# Altium footprint library aiskylab-06Crystals.PcbLib: 41 footprints (part 1 of 3)
Each footprint in its own frame and in the unit in brackets; x right, y up, seen from the top. Pads: shape width x height; smd on the part's side, far side on the other; paste and mask are expansions set on the pad; w line width, h text height; cw(c..) or ccw(c..) is an arc to the next point about the centre after c.
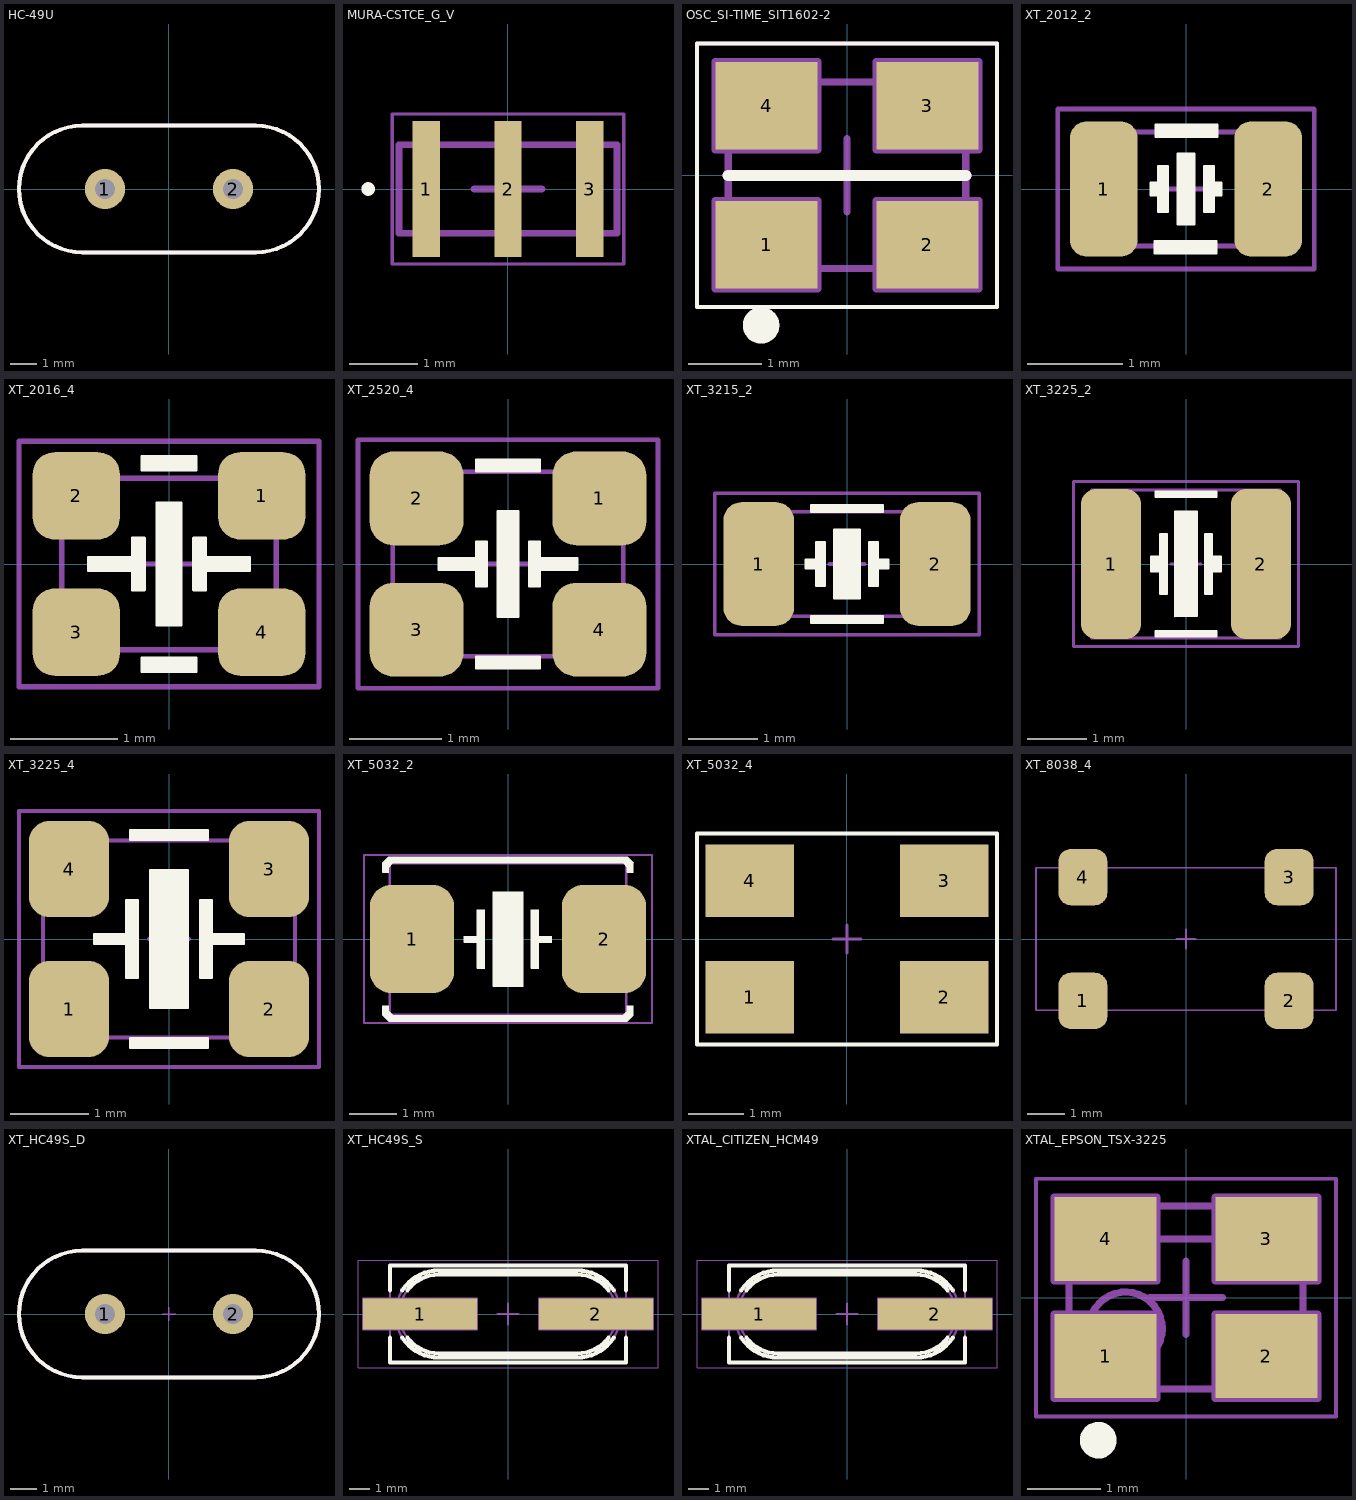
[diagram p0: the footprints below, top view; thin cyan lines are the x and y axes]

## HC-49U [mil]
pads (2):
  round 60 hole 30: 1(-96.06,0) 2(96.06,0)
Top Overlay:
  lines w5.91: -130,-95.02 cw(c-130,0) -130,95.02 130,95.02 cw(c130.06,0) 130,-95.02 -130,-95.02
Top Designator:
  text ".Designator" at -299.87,-19.99 h60
Top Assembly:
  lines w5.91: -130,-95.02 cw(c-130,0) -130,95.02 130,95.02 cw(c130.06,0) 130,-95.02 -130,-95.02
Top Component Outline:
  lines w5.91: -130,-95.02 cw(c-130,0) -130,95.02 130,95.02 cw(c130.06,0) 130,-95.02 -130,-95.02
3D body "hc-49-us.stp": height 144.88, standoff -98.43, extent -220.07,-92.51 220.09,92.52

## MURA-CSTCE_G_V [mm] "SMD, 3-Leads, Body 3.2x1.3mm, Pitch 1.2mm"
height 0.8
pads (3):
  rect 0.4x2 smd: 1(-1.2,0) 2(0,0) 3(1.2,0)
Top Overlay:
  circle w0.1: c-2.05,0 r0.05
Top Assembly:
  lines w0.05: -1.7,-1.1 1.7,-1.1 1.7,1.1 -1.7,1.1 -1.7,-1.1
Top Component Center:
  lines w0.1: -0.5,0 0.5,0 ; 0,-0.5 0,0.5
Top Component Outline:
  lines w0.05: -1.7,-1.1 1.7,-1.1 1.7,1.1 -1.7,1.1 -1.7,-1.1
Top 3D Body:
  lines w0.1: -1.6,-0.65 1.6,-0.65 1.6,0.65 -1.6,0.65 -1.6,-0.65
3D body "SW3dPS-CSTCE.STEP": height 0.7, standoff 0, extent -1.6,-0.65 1.6,0.65

## OSC_SI-TIME_SIT1602-2 [mm]
pads (4):
  rect 1.4x1.2 smd: 1(-1.1,-0.95) 2(1.1,-0.95) 3(1.1,0.95) 4(-1.1,0.95)
Top Overlay:
  circle w0.25: c-1.175,-2.05 r0.125
  lines w0.05: -2.05,-1.8 -2.05,1.8 2.05,1.8 2.05,-1.8 -2.05,-1.8
  lines w0.15: -1.625,0 1.625,0
Top Designator:
  text ".Designator" at -7.618,-0.745 h1.52
Top Assembly:
  circle w0.1: c-1.125,-0.775 r0.25
  lines w0.1: -1.625,-1.275 -1.625,1.275 1.625,1.275 1.625,-1.275 -1.625,-1.275
Top Component Center:
  lines w0.1: -1.6,-0.95 -1.1,-0.95 ; -1.6,0.95 -1.1,0.95 ; -1.1,-1.45 -1.1,-0.95 ; -1.1,-0.45 -1.1,-0.95 ; -1.1,0.45 -1.1,0.95 ; -1.1,1.45 -1.1,0.95 ; -0.6,-0.95 -1.1,-0.95 ; -0.6,0.95 -1.1,0.95 ; -0.5,0 0,0 ; 0,-0.5 0,0 ; 0,0.5 0,0 ; 0.5,0 0,0 ; 0.6,-0.95 1.1,-0.95 ; 0.6,0.95 1.1,0.95 ; 1.1,-1.45 1.1,-0.95 ; 1.1,-0.45 1.1,-0.95 ; 1.1,0.45 1.1,0.95 ; 1.1,1.45 1.1,0.95 ; 1.6,-0.95 1.1,-0.95 ; 1.6,0.95 1.1,0.95 ; -1.8,-1.55 -0.4,-1.55 -0.4,-0.35 -1.8,-0.35 -1.8,-1.55 ; -1.8,0.35 -0.4,0.35 -0.4,1.55 -1.8,1.55 -1.8,0.35 ; 0.4,-1.55 1.8,-1.55 1.8,-0.35 0.4,-0.35 0.4,-1.55 ; 0.4,0.35 1.8,0.35 1.8,1.55 0.4,1.55 0.4,0.35
Top Component Outline:
  lines w0.05: -2.05,-1.8 -2.05,1.8 2.05,1.8 2.05,-1.8 -2.05,-1.8
  lines w0.15: -1.625,0 1.625,0
3D body "OSC_SI-TIME_SiT1602-2.stp": height 0.8, standoff 0, extent -1.625,-1.275 1.625,1.275
3D body "p140-120.stp": height 0.02, standoff 0, extent -1.8,0.35 -0.4,1.55
3D body "p140-120.stp": height 0.02, standoff 0, extent 0.4,0.35 1.8,1.55
3D body "p140-120.stp": height 0.02, standoff 0, extent -1.8,-1.55 -0.4,-0.35
3D body "p140-120.stp": height 0.02, standoff 0, extent 0.4,-1.55 1.8,-0.35

## XT_2012_2 [mil]
height 25.59
pads (2):
  rrect50% 28x56 smd: 1(-34,0) 2(34,0)
Top Overlay:
  region: 12.5,-26.5 -13,-26.5 -13,-21.5 12.5,-21.5
  region: 11.5,-9.5 7.5,-9.5 7.5,9.5 11.5,9.5 11.5,2.5 14.5,2.5 14.5,-2.5 11.5,-2.5
  region: -3.5,14.5 3.5,14.5 3.5,-14.5 -3.5,-14.5
  region: -11.5,9.5 -7.5,9.5 -7.5,-9.5 -11.5,-9.5 -11.5,-2.5 -14.5,-2.5 -14.5,2.5 -11.5,2.5
  region: -12.5,26.5 13,26.5 13,21.5 -12.5,21.5
  lines w1: -14.5,-2.5 -14.5,2.5 -11.5,2.5 -11.5,9.5 -7.5,9.5 -7.5,-9.5 -11.5,-9.5 -11.5,-2.5 -14.5,-2.5 ; -13,-26.5 12.5,-26.5 12.5,-21.5 -13,-21.5 -13,-26.5 ; -12.5,21.5 13,21.5 13,26.5 -12.5,26.5 -12.5,21.5 ; -3.5,-14.5 3.5,-14.5 3.5,14.5 -3.5,14.5 -3.5,-14.5 ; 7.5,-9.5 7.5,9.5 11.5,9.5 11.5,2.5 14.5,2.5 14.5,-2.5 11.5,-2.5 11.5,-9.5 7.5,-9.5
Top Designator:
  lines w2: -53,-33 53,-33 53,33 -53,33 -53,-33
  text ".Designator" at -35,-20 h80
Top 3D Body:
  lines w2: -10.01,0.01 9.99,0.01 ; 0,-10 0,10 ; -39.37,-23.62 39.37,-23.62 39.37,23.62 -39.37,23.62 -39.37,-23.62
3D body "User Library-ABS06.STEP": height 23.62, standoff 0, extent -39.37,-24.01 39.37,24.02

## XT_2016_4 [mil]
height 29.53
pads (4):
  rrect50% 32x32 smd: 1(34,25) 2(-34,25) 3(-34,-25) 4(34,-25)
Top Overlay:
  region: -10,-34.5 10,-34.5 10,-39.5 -10,-39.5
  region: 9,9.5 13.5,9.5 13.5,2.5 29.5,2.5 29.5,-2.5 13.5,-2.5 13.5,-9.5 9,-9.5
  region: -4.5,22.5 4.5,22.5 4.5,-22.5 -4.5,-22.5
  region: -29.5,2.5 -13.5,2.5 -13.5,9.5 -9,9.5 -9,-9.5 -13.5,-9.5 -13.5,-2.5 -29.5,-2.5
  region: -10,39.5 10,39.5 10,34.5 -10,34.5
  lines w1: -29.5,-2.5 -29.5,2.5 -13.5,2.5 -13.5,9.5 -9,9.5 -9,-9.5 -13.5,-9.5 -13.5,-2.5 -29.5,-2.5 ; -10,-39.5 -10,-34.5 10,-34.5 10,-39.5 -10,-39.5 ; -10,34.5 10,34.5 10,39.5 -10,39.5 -10,34.5 ; -4.5,-22.5 -4.5,22.5 4.5,22.5 4.5,-22.5 -4.5,-22.5 ; 9,-9.5 13.5,-9.5 13.5,-2.5 29.5,-2.5 29.5,2.5 13.5,2.5 13.5,9.5 9,9.5 9,-9.5
Top Designator:
  lines w2: -55,-45 -55,45 55,45 55,-45 -55,-45
  text ".Designator" at -35,-20 h80
Top 3D Body:
  lines w2: -10,0.01 10,0.01 ; 0.01,-10 0.01,10 ; -39.37,-31.5 39.37,-31.5 39.37,31.5 -39.37,31.5 -39.37,-31.5
3D body "User Library-NT2016SA-END4910A-48MHZ Crystal (NDK).STEP": height 27.56, standoff -0.04, extent -39.37,-31.5 39.37,31.5

## XT_2520_4 [mil]
height 29.53
pads (4):
  rrect50% 40x40 smd: 1(39,28) 2(-39,28) 3(-39,-28) 4(39,-28)
Top Overlay:
  region: -13.5,44.5 13.5,44.5 13.5,39.5 -13.5,39.5
  region: -13.5,-39.5 13.5,-39.5 13.5,-44.5 -13.5,-44.5
  region: -29.5,2.5 -13.5,2.5 -13.5,9.5 -9,9.5 -9,-9.5 -13.5,-9.5 -13.5,-2.5 -29.5,-2.5
  region: -4.5,22.5 4.5,22.5 4.5,-22.5 -4.5,-22.5
  region: 9,9.5 13.5,9.5 13.5,2.5 29.5,2.5 29.5,-2.5 13.5,-2.5 13.5,-9.5 9,-9.5
  lines w1: -29.5,-2.5 -13.5,-2.5 -13.5,-9.5 -9,-9.5 -9,9.5 -13.5,9.5 -13.5,2.5 -29.5,2.5 -29.5,-2.5 ; -13.5,-44.5 13.5,-44.5 13.5,-39.5 -13.5,-39.5 -13.5,-44.5 ; -13.5,39.5 -13.5,44.5 13.5,44.5 13.5,39.5 -13.5,39.5 ; -4.5,-22.5 4.5,-22.5 4.5,22.5 -4.5,22.5 -4.5,-22.5 ; 9,-9.5 9,9.5 13.5,9.5 13.5,2.5 29.5,2.5 29.5,-2.5 13.5,-2.5 13.5,-9.5 9,-9.5
Top Designator:
  lines w2: -64,-53 64,-53 64,53 -64,53 -64,-53
  text ".Designator" at -35,-20 h80
Top 3D Body:
  lines w2: -10,0.01 10,0.01 ; 0.01,-10 0.01,10 ; -49.21,-39.36 -49.21,39.37 49.22,39.37 49.22,-39.36 -49.21,-39.36
3D body "User Library-Osc KC2520.STEP": height 31.1, standoff 0, extent -49.21,-39.36 49.22,39.38

## XT_3215_2 [mil]
height 25.59
pads (2):
  rrect50% 40x70 smd: 1(-50,0) 2(50,0)
Top Overlay:
  region: 20.5,-33.5 -20.5,-33.5 -20.5,-29.5 20.5,-29.5
  region: 12.5,12.5 17.5,12.5 17.5,2.5 23.5,2.5 23.5,-2.5 17.5,-2.5 17.5,-12.5 12.5,-12.5
  region: -12.5,-12.5 -17.5,-12.5 -17.5,-2.5 -23.5,-2.5 -23.5,2.5 -17.5,2.5 -17.5,12.5 -12.5,12.5
  region: -7.5,19.5 7.5,19.5 7.5,-19.5 -7.5,-19.5
  region: -20.5,33.5 20.5,33.5 20.5,29.5 -20.5,29.5
  lines w1: -23.5,-2.5 -23.5,2.5 -17.5,2.5 -17.5,12.5 -12.5,12.5 -12.5,-12.5 -17.5,-12.5 -17.5,-2.5 -23.5,-2.5 ; -20.5,-33.5 20.5,-33.5 20.5,-29.5 -20.5,-29.5 -20.5,-33.5 ; -20.5,29.5 -20.5,33.5 20.5,33.5 20.5,29.5 -20.5,29.5 ; -7.5,-19.5 -7.5,19.5 7.5,19.5 7.5,-19.5 -7.5,-19.5 ; 12.5,-12.5 17.5,-12.5 17.5,-2.5 23.5,-2.5 23.5,2.5 17.5,2.5 17.5,12.5 12.5,12.5 12.5,-12.5
Top Designator:
  lines w2: -75,-40 75,-40 75,40 -75,40 -75,-40
  text ".Designator" at -35,-20 h80
Top 3D Body:
  lines w2: -10,0.01 10,0.01 ; 0.01,-10 0.01,10 ; -63,-29.51 62.99,-29.51 62.99,29.53 -63,29.53 -63,-29.51
3D body "User Library-ECX-31B.STEP": height 35.43, standoff 0, extent -63,-29.51 62.99,29.55

## XT_3225_2 [mil]
height 25.59
pads (2):
  rrect50% 40x100 smd: 1(-50,0) 2(50,0)
Top Overlay:
  region: 20.5,-48.5 -20.5,-48.5 -20.5,-44.5 20.5,-44.5
  region: 12.5,20 17.5,20 17.5,5 23.5,5 23.5,-5 17.5,-5 17.5,-20 12.5,-20
  region: -12.5,-20 -17.5,-20 -17.5,-5 -23.5,-5 -23.5,5 -17.5,5 -17.5,20 -12.5,20
  region: -7.5,35 7.5,35 7.5,-35 -7.5,-35
  region: -20.5,48.5 20.5,48.5 20.5,44.5 -20.5,44.5
  lines w1: -23.5,-5 -17.5,-5 -17.5,-20 -12.5,-20 -12.5,20 -17.5,20 -17.5,5 -23.5,5 -23.5,-5 ; -20.5,-48.5 20.5,-48.5 20.5,-44.5 -20.5,-44.5 -20.5,-48.5 ; -20.5,44.5 -20.5,48.5 20.5,48.5 20.5,44.5 -20.5,44.5 ; -7.5,-35 -7.5,35 7.5,35 7.5,-35 -7.5,-35 ; 12.5,-20 17.5,-20 17.5,-5 23.5,-5 23.5,5 17.5,5 17.5,20 12.5,20 12.5,-20
Top Designator:
  lines w2: -75,-55 -75,55 75,55 75,-55 -75,-55
  text ".Designator" at -35,-20 h80
Top 3D Body:
  lines w2: -10,0.01 10,0.01 ; 0.01,-10 0.01,10 ; -63,-49.21 -63,49.21 62.99,49.21 62.99,-49.21 -63,-49.21
3D body "User Library-SG310.STEP": height 41.34, standoff 0, extent -62.99,-49.21 63,49.21

## XT_3225_4 [mil]
height 47.24
pads (4):
  rrect50% 40x48 smd: 1(-50,-35) 2(50,-35) 3(50,35) 4(-50,35)
Top Overlay:
  region: -19.5,54.5 19.5,54.5 19.5,49.5 -19.5,49.5
  region: -9.5,34.5 9.5,34.5 9.5,-34.5 -9.5,-34.5
  region: -21.5,19.5 -15.5,19.5 -15.5,-19.5 -21.5,-19.5 -21.5,-2.5 -37.5,-2.5 -37.5,2.5 -21.5,2.5
  region: 21.5,-19.5 15.5,-19.5 15.5,19.5 21.5,19.5 21.5,2.5 37.5,2.5 37.5,-2.5 21.5,-2.5
  region: 19.5,-54.5 -19.5,-54.5 -19.5,-49.5 19.5,-49.5
  lines w1: -37.5,-2.5 -21.5,-2.5 -21.5,-19.5 -15.5,-19.5 -15.5,19.5 -21.5,19.5 -21.5,2.5 -37.5,2.5 -37.5,-2.5 ; -19.5,-54.5 19.5,-54.5 19.5,-49.5 -19.5,-49.5 -19.5,-54.5 ; -19.5,49.5 19.5,49.5 19.5,54.5 -19.5,54.5 -19.5,49.5 ; -9.5,-34.5 -9.5,34.5 9.5,34.5 9.5,-34.5 -9.5,-34.5 ; 15.5,-19.5 21.5,-19.5 21.5,-2.5 37.5,-2.5 37.5,2.5 21.5,2.5 21.5,19.5 15.5,19.5 15.5,-19.5
Top Designator:
  lines w2: -75,-64 75,-64 75,64 -75,64 -75,-64
  text ".Designator" at -35,-20 h80
Top 3D Body:
  lines w2: -10,0.01 10,0.01 ; 0.01,-10 0.01,10 ; -63,-49.21 -63,49.21 62.99,49.21 62.99,-49.21 -63,-49.21
3D body "User Library-SG310.STEP": height 41.34, standoff 0, extent -62.99,-49.21 63,49.21

## XT_5032_2 [mil]
height 47.24
pads (2):
  rrect50% 70x90 smd: 1(-80,0) 2(80,0)
Top Overlay:
  region: 104.5,-55.5 99.5,-55.5 99.5,-60 96,-63.5 -96,-63.5 -99.5,-60 -99.5,-55.5 -104.5,-55.5 -104.5,-63.5 -99.5,-68.5 99.5,-68.5 104.5,-63.5
  region: -104.5,55.5 -99.5,55.5 -99.5,60 -96,63.5 96,63.5 99.5,60 99.5,55.5 104.5,55.5 104.5,63.5 99.5,68.5 -99.5,68.5 -104.5,63.5
  region: -19.5,24.5 -25.5,24.5 -25.5,2.5 -36.5,2.5 -36.5,-2.5 -25.5,-2.5 -25.5,-24.5 -19.5,-24.5
  region: -12.5,39.5 12.5,39.5 12.5,-39.5 -12.5,-39.5
  region: 19.5,-24.5 25.5,-24.5 25.5,-2.5 36.5,-2.5 36.5,2.5 25.5,2.5 25.5,24.5 19.5,24.5
  lines w1: -104.5,-63.5 -99.5,-68.5 99.5,-68.5 104.5,-63.5 104.5,-55.5 99.5,-55.5 99.5,-60 96,-63.5 -96,-63.5 -99.5,-60 -99.5,-55.5 -104.5,-55.5 -104.5,-63.5 ; -104.5,55.5 -99.5,55.5 -99.5,60 -96,63.5 96,63.5 99.5,60 99.5,55.5 104.5,55.5 104.5,63.5 99.5,68.5 -99.5,68.5 -104.5,63.5 -104.5,55.5 ; -36.5,-2.5 -25.5,-2.5 -25.5,-24.5 -19.5,-24.5 -19.5,24.5 -25.5,24.5 -25.5,2.5 -36.5,2.5 -36.5,-2.5 ; -12.5,-39.5 12.5,-39.5 12.5,39.5 -12.5,39.5 -12.5,-39.5 ; 19.5,-24.5 19.5,24.5 25.5,24.5 25.5,2.5 36.5,2.5 36.5,-2.5 25.5,-2.5 25.5,-24.5 19.5,-24.5
Top Designator:
  lines w2: -10,0.01 10,0.01 ; 0.01,-10 0.01,10 ; -120,-70 120,-70 120,70 -120,70 -120,-70 ; -98.43,-63 -98.43,62.99 98.43,62.99 98.43,-63 98.42,-63 -98.43,-63
  text ".Designator" at -35,-20 h80
3D body "User Library-CRYSTALSMD5X32.STEP": height 39.37, standoff 0, extent -98.42,-63 98.43,62.99

## XT_5032_4 [mm]
height 1.2
pads (4):
  rect 1.6x1.3 smd mask+0.051: 1(-1.75,-1.05) 2(1.75,-1.05) 3(1.75,1.05) 4(-1.75,1.05)
Top Overlay:
  lines w0.076: -2.7,-1.9 -2.7,1.9 2.7,1.9 2.7,-1.9 -2.7,-1.9
Top Designator:
  text ".Designator" at -7.617,-0.508 h1.52
Top 3D Body:
  lines w0.025: -0.259,0 0.249,0 ; 0,-0.264 0,0.236
  lines w0.051: -0.254,0 0.254,0 ; 0,-0.254 0,0.254
3D body "p160-130.stp": height 0.02, standoff 0, extent 0.95,-1.7 2.55,-0.4
3D body "p160-130.stp": height 0.02, standoff 0, extent 0.95,0.4 2.55,1.7
3D body "p160-130.stp": height 0.02, standoff 0, extent -2.55,-1.7 -0.95,-0.4
3D body "p160-130.stp": height 0.02, standoff 0, extent -2.55,0.4 -0.95,1.7
3D body "User Library-CRYSTALSMD5X32.STEP": height 1, standoff 0, extent -2.5,-1.6 2.5,1.6

## XT_8038_4 [mm]
height 2.54
pads (4):
  rrect50% 1.3x1.5 smd: 1(-2.75,-1.65) 2(2.75,-1.65) 3(2.75,1.65) 4(-2.75,1.65)
Top 3D Body:
  lines w0.051: -0.254,0 0.254,0 ; 0,-0.254 0,0.254 ; -4,-1.9 -4,1.9 4,1.9 4,-1.9 -4,-1.9
3D body "SW3dPS-ZM206.STEP": height 2.43, standoff -0.1, extent -4.012,-1.9 3.988,1.9

## XT_HC49S_D [mil]
height 47.24
pads (2):
  round 60 hole 30: 1(-96.06,0.01) 2(96.07,0.01)
Top Overlay:
  lines w5.91: -129.99,-95.01 cw(c-129.99,0.01) -129.99,95.03 130,95.03 cw(c130.07,0.01) 130.01,-95.01 -129.99,-95.01
Top Assembly:
  lines w5.91: -129.99,-95.01 cw(c-129.99,0.01) -129.99,95.03 130,95.03 cw(c130.07,0.01) 130.01,-95.01 -129.99,-95.01
Top Component Outline:
  lines w5.91: -129.99,-95.01 cw(c-129.99,0.01) -129.99,95.03 130,95.03 cw(c130.07,0.01) 130.01,-95.01 -129.99,-95.01
Top 3D Body:
  lines w2: -10,0.01 10,0.01 ; 0.01,-10 0.01,10
3D body "SW3dPS-HP49US.STEP": height 137.8, standoff -157.48, extent -227.43,-86.07 219.42,97

## XT_HC49S_S [mm]
height 1.2
pads (2):
  rect 5.5x1.5 smd: 1(-4.25,0) 2(4.25,0)
Top Overlay:
  lines w0.2: -5.7,-1.15 -5.7,-2.35 5.7,-2.35 5.7,-1.15 ; -5.7,1.15 -5.7,2.35 5.7,2.35 5.7,1.15 ; -5.108,-1.15 ccw(c-3.345,0) -3.345,-2.105 3.345,-2.105 ccw(c3.345,0) 5.108,-1.15 ; -5.108,1.15 cw(c-3.345,0) -3.345,2.105 3.345,2.105 cw(c3.345,0) 5.108,1.15 ; -4.864,-1.15 ccw(c-3.345,0) -3.345,-1.905 3.345,-1.905 ccw(c3.345,0) 4.864,-1.15 ; -4.864,1.15 cw(c-3.345,0) -3.345,1.905 3.345,1.905 cw(c3.345,0) 4.864,1.15
Top Designator:
  text ".Designator" at -7.618,-0.508 h1.52
Top Assembly:
  lines w0.1: -7,-0.75 -1.5,-0.75 -1.5,0.75 -7,0.75 -7,-0.75 ; -5.7,-2.35 5.7,-2.35 5.7,2.35 -5.7,2.35 -5.7,-2.35 ; -3.345,-2.105 cw(c-3.345,0) -3.345,2.105 3.345,2.105 cw(c3.345,0) 3.345,-2.105 -3.345,-2.105 ; -3.345,-1.905 cw(c-3.345,0) -3.345,1.905 3.345,1.905 cw(c3.345,0) 3.345,-1.905 -3.345,-1.905 ; 1.5,-0.75 7,-0.75 7,0.75 1.5,0.75 1.5,-0.75
Top Component Center:
  lines w0.1: -4.75,0 -4.25,0 ; -4.25,-0.5 -4.25,0 ; -4.25,0.5 -4.25,0 ; -3.75,0 -4.25,0 ; -0.5,0 0,0 ; 0,-0.5 0,0 ; 0,0.5 0,0 ; 0.5,0 0,0 ; 3.75,0 4.25,0 ; 4.25,-0.5 4.25,0 ; 4.25,0.5 4.25,0 ; 4.75,0 4.25,0
Top Component Outline:
  lines w0.05: -7.25,-2.6 7.25,-2.6 7.25,2.6 -7.25,2.6 -7.25,-2.6
3D body "p550-150.stp": height 0.02, standoff 0, extent -7,-0.75 -1.5,0.75
3D body "p550-150.stp": height 0.02, standoff 0, extent 1.5,-0.75 7,0.75
3D body "User Library-Crystal HC49_US-SM.STEP": height 4.3, standoff 0, extent -6.4,-2.415 6.4,2.415

## XTAL_CITIZEN_HCM49 [mm] "CITIZEN HCM49 Case, SMD Cristal, Body 11.4 x 4.7mm"
height 4.3
pads (2):
  rect 5.5x1.5 smd: 1(-4.25,0) 2(4.25,0)
Top Overlay:
  lines w0.2: -5.7,-1.15 -5.7,-2.35 5.7,-2.35 5.7,-1.15 ; -5.7,1.15 -5.7,2.35 5.7,2.35 5.7,1.15 ; -5.108,-1.15 ccw(c-3.345,0) -3.345,-2.105 3.345,-2.105 ccw(c3.345,0) 5.108,-1.15 ; -5.108,1.15 cw(c-3.345,0) -3.345,2.105 3.345,2.105 cw(c3.345,0) 5.108,1.15 ; -4.864,-1.15 ccw(c-3.345,0) -3.345,-1.905 3.345,-1.905 ccw(c3.345,0) 4.864,-1.15 ; -4.864,1.15 cw(c-3.345,0) -3.345,1.905 3.345,1.905 cw(c3.345,0) 4.864,1.15
Top Designator:
  text ".Designator" at -7.618,-0.508 h1.52
Top Assembly:
  lines w0.1: -7,-0.75 -1.5,-0.75 -1.5,0.75 -7,0.75 -7,-0.75 ; -5.7,-2.35 5.7,-2.35 5.7,2.35 -5.7,2.35 -5.7,-2.35 ; -3.345,-2.105 cw(c-3.345,0) -3.345,2.105 3.345,2.105 cw(c3.345,0) 3.345,-2.105 -3.345,-2.105 ; -3.345,-1.905 cw(c-3.345,0) -3.345,1.905 3.345,1.905 cw(c3.345,0) 3.345,-1.905 -3.345,-1.905 ; 1.5,-0.75 7,-0.75 7,0.75 1.5,0.75 1.5,-0.75
Top Component Center:
  lines w0.1: -4.75,0 -4.25,0 ; -4.25,-0.5 -4.25,0 ; -4.25,0.5 -4.25,0 ; -3.75,0 -4.25,0 ; -0.5,0 0,0 ; 0,-0.5 0,0 ; 0,0.5 0,0 ; 0.5,0 0,0 ; 3.75,0 4.25,0 ; 4.25,-0.5 4.25,0 ; 4.25,0.5 4.25,0 ; 4.75,0 4.25,0
Top Component Outline:
  lines w0.05: -7.25,-2.6 7.25,-2.6 7.25,2.6 -7.25,2.6 -7.25,-2.6
3D body "p550-150.stp": height 0.02, standoff 0, extent -7,-0.75 -1.5,0.75
3D body "p550-150.stp": height 0.02, standoff 0, extent 1.5,-0.75 7,0.75
3D body "XTAL_CITIZEN_HCM49.stp": height 4.3, standoff 0, extent -6.002,-2.35 6.002,2.35

## XTAL_EPSON_TSX-3225 [mm] "Oscillator TSX-3225 Serie, Corner Concave; 4 pin, 2.50mm L X 3.2mm W X 0.6mm H"
height 0.6
pads (4):
  rect 1.4x1.15 smd: 1(-1.1,-0.8) 2(1.1,-0.8) 3(1.1,0.8) 4(-1.1,0.8)
Top Overlay:
  circle w0.25: c-1.2,-1.95 r0.125
Top Designator:
  text ".Designator" at -7.618,-0.783 h1.52
Top Assembly:
  circle w0.1: c-0.825,-0.425 r0.5
  lines w0.1: -1.6,-1.15 cw(c-1.6,-1.25) -1.5,-1.25 1.5,-1.25 cw(c1.6,-1.25) 1.6,-1.15 1.6,1.15 cw(c1.6,1.25) 1.5,1.25 -1.5,1.25 cw(c-1.6,1.25) -1.6,1.15 -1.6,-1.15
Top Component Center:
  lines w0.1: -1.6,-0.8 -1.1,-0.8 ; -1.6,0.8 -1.1,0.8 ; -1.1,-1.3 -1.1,-0.8 ; -1.1,-0.3 -1.1,-0.8 ; -1.1,0.3 -1.1,0.8 ; -1.1,1.3 -1.1,0.8 ; -0.6,-0.8 -1.1,-0.8 ; -0.6,0.8 -1.1,0.8 ; -0.5,0 0,0 ; 0,-0.5 0,0 ; 0,0.5 0,0 ; 0.5,0 0,0 ; 0.6,-0.8 1.1,-0.8 ; 0.6,0.8 1.1,0.8 ; 1.1,-1.3 1.1,-0.8 ; 1.1,-0.3 1.1,-0.8 ; 1.1,0.3 1.1,0.8 ; 1.1,1.3 1.1,0.8 ; 1.6,-0.8 1.1,-0.8 ; 1.6,0.8 1.1,0.8 ; -1.1,0.8 1.1,0.8 ; -1.8,-1.375 -1.8,-0.225 -0.4,-0.225 -0.4,-1.375 -1.8,-1.375 ; -1.8,0.225 -1.8,1.375 -0.4,1.375 -0.4,0.225 -1.8,0.225 ; 0.4,-1.375 0.4,-0.225 1.8,-0.225 1.8,-1.375 0.4,-1.375 ; 0.4,0.225 0.4,1.375 1.8,1.375 1.8,0.225 0.4,0.225
Top Component Outline:
  lines w0.05: -2.05,-1.625 -2.05,1.625 2.05,1.625 2.05,-1.625 -2.05,-1.625
3D body "XTAL_EPSON_TSX-3225.stp": height 0.6, standoff 0, extent -1.6,-1.25 1.6,1.25
3D body "p140-115.stp": height 0.02, standoff 0, extent 0.4,-1.375 1.8,-0.225
3D body "p140-115.stp": height 0.02, standoff 0, extent -1.8,-1.375 -0.4,-0.225
3D body "p140-115.stp": height 0.02, standoff 0, extent 0.4,0.225 1.8,1.375
3D body "p140-115.stp": height 0.02, standoff 0, extent -1.8,0.225 -0.4,1.375